# Altium footprint library RES_3K_805.PcbLib: 3 footprints
Each footprint in its own frame and in the unit in brackets; x right, y up, seen from the top. Pads: shape width x height; smd on the part's side, far side on the other; paste and mask are expansions set on the pad; w line width, h text height; cw(c..) or ccw(c..) is an arc to the next point about the centre after c.
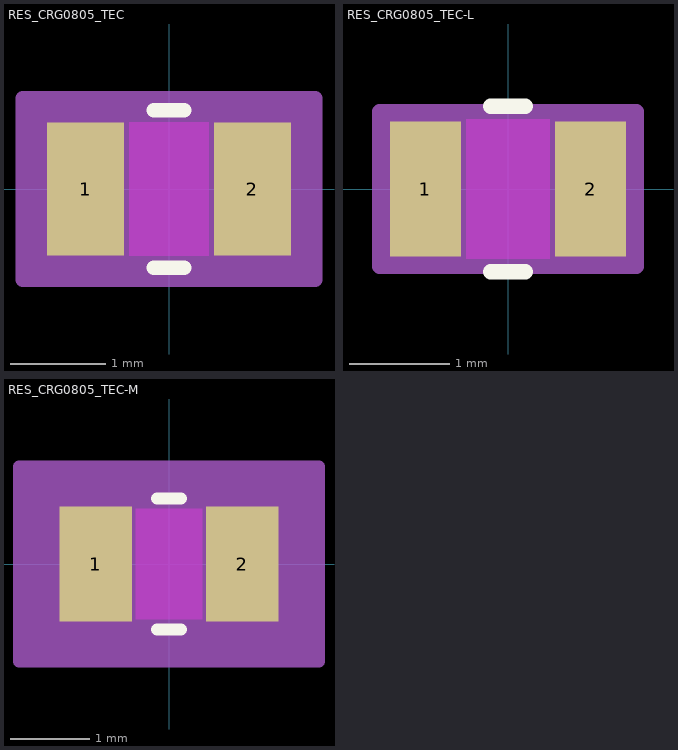
[diagram p0: the footprints below, top view; thin cyan lines are the x and y axes]

## RES_CRG0805_TEC [mil]
pads (2):
  rect 32x55 smd paste+0 mask+0: 1(-34.5,0) 2(34.5,0)
Top Layer keep-out:
  region: -16.5,-25.5 -16.5,25.5 16.5,25.5 16.5,-25.5
Top Overlay:
  lines w6: -6.39,-32.5 6.39,-32.5 ; -6.39,32.5 6.39,32.5
Keep-Out Layer:
  region: -16.5,-27.5 -16.5,27.5 16.5,27.5 16.5,-27.5
Mechanical 13:
  lines w1: -42.5,-27.5 -42.5,27.5 ; -42.5,-27.5 42.5,-27.5 ; -42.5,-27.5 -18.5,-27.5 -18.5,27.5 -42.5,27.5 ; -42.5,-27.5 -42.5,27.5 ; -42.5,27.5 42.5,27.5 ; 42.5,-27.5 42.5,27.5 ; 42.5,-27.5 42.5,27.5 ; 42.5,-27.5 18.5,-27.5 18.5,27.5 42.5,27.5
Mechanical 15:
  region: 60.5,-37.5 -60.5,-37.5 -60.5,37.5 60.5,37.5
  lines w6: -60.5,-37.5 60.5,-37.5 60.5,37.5 -60.5,37.5 -60.5,-37.5
3D body "RES_CRG0805_TEC.step": height 25.98, standoff 0, extent -42.52,-27.48 42.52,27.48

## RES_CRG0805_TEC-L [mil]
pads (2):
  rect 28x53 smd paste+0 mask+0: 1(-32.5,0) 2(32.5,0)
Top Layer keep-out:
  region: -16.5,-25.5 -16.5,25.5 16.5,25.5 16.5,-25.5
Top Overlay:
  lines w6: -6.85,-32.5 6.85,-32.5 ; -6.85,32.5 6.85,32.5
Keep-Out Layer:
  region: -16.5,-27.5 -16.5,27.5 16.5,27.5 16.5,-27.5
Mechanical 13:
  lines w1: -42.5,-27.5 -42.5,27.5 ; -42.5,-27.5 -18.5,-27.5 -18.5,27.5 -42.5,27.5 ; -42.5,-27.5 42.5,-27.5 ; -42.5,-27.5 -42.5,27.5 ; -42.5,27.5 42.5,27.5 ; 42.5,-27.5 18.5,-27.5 18.5,27.5 42.5,27.5 ; 42.5,-27.5 42.5,27.5 ; 42.5,-27.5 42.5,27.5
Mechanical 15:
  region: 50.5,-30.5 -50.5,-30.5 -50.5,30.5 50.5,30.5
  lines w6: -50.5,-30.5 -50.5,30.5 50.5,30.5 50.5,-30.5 -50.5,-30.5
3D body "RES_CRG0805_TEC.step": height 25.98, standoff 0, extent -42.52,-27.48 42.52,27.48

## RES_CRG0805_TEC-M [mil]
pads (2):
  rect 36x57 smd paste+0 mask+0: 1(-36.5,0) 2(36.5,0)
Top Layer keep-out:
  region: -16.5,-25.5 -16.5,25.5 16.5,25.5 16.5,-25.5
Top Overlay:
  lines w6: -6.03,-32.5 6.03,-32.5 ; -6.03,32.5 6.03,32.5
Keep-Out Layer:
  region: -16.5,-27.5 -16.5,27.5 16.5,27.5 16.5,-27.5
Mechanical 13:
  lines w1: -42.5,-27.5 -42.5,27.5 ; -42.5,-27.5 -18.5,-27.5 -18.5,27.5 -42.5,27.5 ; -42.5,-27.5 42.5,-27.5 ; -42.5,-27.5 -42.5,27.5 ; -42.5,27.5 42.5,27.5 ; 42.5,-27.5 18.5,-27.5 18.5,27.5 42.5,27.5 ; 42.5,-27.5 42.5,27.5 ; 42.5,-27.5 42.5,27.5
Mechanical 15:
  region: 74.5,-48.5 -74.5,-48.5 -74.5,48.5 74.5,48.5
  lines w6: -74.5,-48.5 -74.5,48.5 74.5,48.5 74.5,-48.5 -74.5,-48.5
3D body "RES_CRG0805_TEC.step": height 25.98, standoff 0, extent -42.52,-27.48 42.52,27.48